# EAGLE library part MINI-USB-RCPT-B-5PS-R/A-SMD(ST-USB-002A) (library OPL-Connector)
320010013
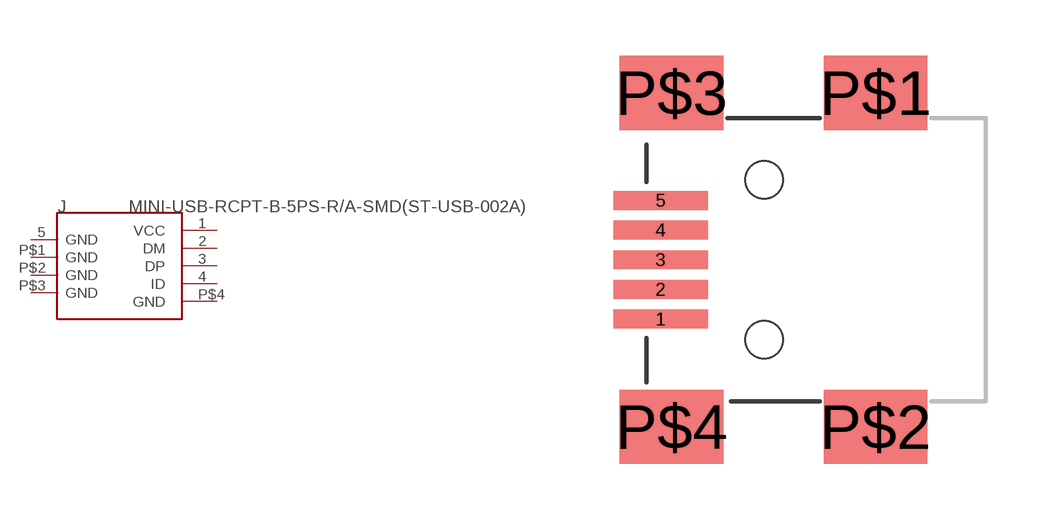
[diagram p48: symbol with the pads of MINIUSB5+4P-SMD-0.8-90D; footprint MINIUSB5+4P-SMD-0.8-90D]

Designator prefix J

## MINI-USB-RCPT-B-5PS-R/A-SMD(ST-USB-002A) (MPN: ST-USB-002A)  [MINIUSB5+4P-SMD-0.8-90D]
1  VCC
2  DM
3  DP
4  ID
5  GND
P$1  GND
P$2  GND
P$3  GND
P$4  GND

## Footprint MINIUSB5+4P-SMD-0.8-90D (pad centres in mm)
USB Series Mini-B Surface Mounted
smd 2.54 x 0.508: 1 0.381,-1.6; 2 0.381,-0.8; 3 0.381,0; 4 0.381,0.8; 5 0.381,1.6
smd 2.794 x 2: P$1 6.175,4.5; P$2 6.175,-4.5; P$3 0.675,4.5; P$4 0.675,-4.5
hole 1.016 at 3.175,-2.159
hole 1.016 at 3.175,2.159